# Altium footprint library transistor.PcbLib: 21 footprints (part 2 of 2)
Each footprint in its own frame and in the unit in brackets; x right, y up, seen from the top. Pads: shape width x height; smd on the part's side, far side on the other; paste and mask are expansions set on the pad; w line width, h text height; cw(c..) or ccw(c..) is an arc to the next point about the centre after c.
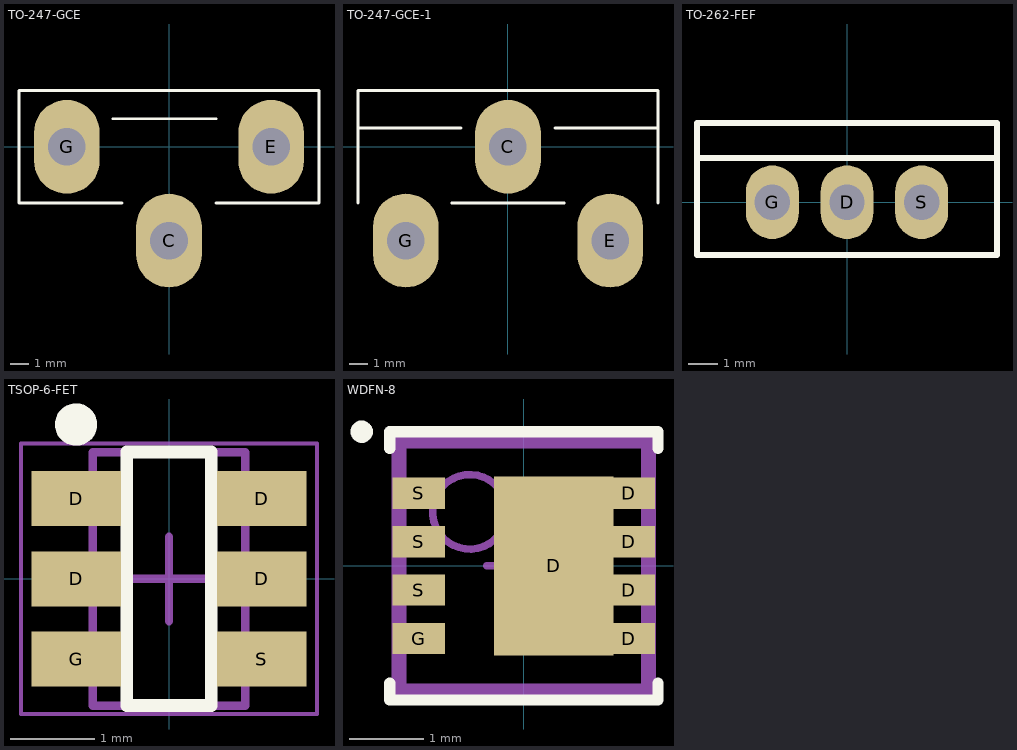
[diagram p1: the footprints below, top view; thin cyan lines are the x and y axes]

## TO-247-GCE [mm]
pads (3):
  oval 3.5x5 hole 2: C(0,-5) E(5.45,0) G(-5.45,0)
Top Overlay:
  lines w0.15: -3,1.5 2.5,1.5 ; -2.5,-3 -8,-3 -8,3 8,3 8,-3 2.5,-3
3D body: height 26.15, standoff -3.84, extent -7.5,-5.2 7.5,3

## TO-247-GCE-1 [mm]
pads (3):
  oval 3.5x5 hole 2: C(0,0) E(5.45,-5) G(-5.45,-5)
Top Overlay:
  lines w0.15: -8,-3 -8,3 8,3 8,-3 ; -8,1 -2.5,1 ; -3,-3 3,-3 ; 2.5,1 8,1
3D body: height 26.15, standoff -3.84, extent -7.5,-5.2 7.5,3

## TO-262-FEF [mm]
height 13
pads (3):
  oval 1.8x2.5 hole 1.2: D(0,0) G(-2.54,0) S(2.54,0)
Top Overlay:
  lines w0.2: -5.1,1.5 5.1,1.5 ; -5.1,-1.8 5.1,-1.8 5.1,2.7 -5.1,2.7 -5.1,-1.8

## TSOP-6-FET [mm] "TSOP, 6-Leads, Body 2,90x1,63mm, Pitch 0,95mm, IPC High Density"
height 1.5
pads (6):
  rect 1.06x0.65 smd: D(-1.1,0) D(-1.1,0.95) D(1.1,0) D(1.1,0.95) G(-1.1,-0.95) S(1.1,-0.95)
Top Overlay:
  circle w0.25: c-1.1,1.825 r0.125
  lines w0.15: -0.5,-1.5 0.5,-1.5 0.5,1.5 -0.5,1.5 -0.5,-1.5
Top Courtyard:
  lines w0.05: -1.75,-1.6 1.75,-1.6 1.75,1.6 -1.75,1.6 -1.75,-1.6
  lines w0.1: -0.5,0 0.5,0 ; 0,-0.5 0,0.5
Mechanical 13:
  lines w0.1: -0.9,-1.5 0.9,-1.5 0.9,1.5 -0.9,1.5 -0.9,-1.5
3D body: height 1.5, standoff 0, extent -1.4,-1.5 1.4,1.5

## WDFN-8 [mm] "WDFN-8, 8-Leads, Body 3,30x3,30mm, Pitch 0,65mm, IPC High Density"
height 0.75
pads (9):
  rect 1.6x2.4 smd: D(0.4,0)
  rect 0.7x0.42 smd: D(1.41,-0.975) D(1.41,-0.325) D(1.41,0.325) D(1.41,0.975) G(-1.41,-0.975) S(-1.41,-0.325) S(-1.41,0.325) S(-1.41,0.975)
Top Overlay:
  circle w0.2: c-2.175,1.8 r0.05
  lines w0.15: -1.8,-1.575 -1.8,-1.8 1.8,-1.8 1.8,-1.575 ; -1.8,1.575 -1.8,1.8 1.8,1.8 1.8,1.575
Top Courtyard:
  lines w0.1: -0.5,0 0.5,0 ; 0,-0.5 0,0.5
  lines w0.15: -1.7,-1.75 -1.7,1.75 1.7,1.75 1.7,-1.75 -1.7,-1.75
Mechanical 13:
  circle w0.1: c-0.725,0.725 r0.5
  lines w0.15: -1.65,-1.65 -1.65,1.65 1.65,1.65 1.65,-1.65 -1.65,-1.65
3D body: height 0.75, standoff 0.1, extent -1.65,-1.65 1.65,1.65